# Altium footprint library rgb_led.PcbLib: 1 footprints
Each footprint in its own frame and in the unit in brackets; x right, y up, seen from the top. Pads: shape width x height; smd on the part's side, far side on the other; paste and mask are expansions set on the pad; w line width, h text height; cw(c..) or ccw(c..) is an arc to the next point about the centre after c.
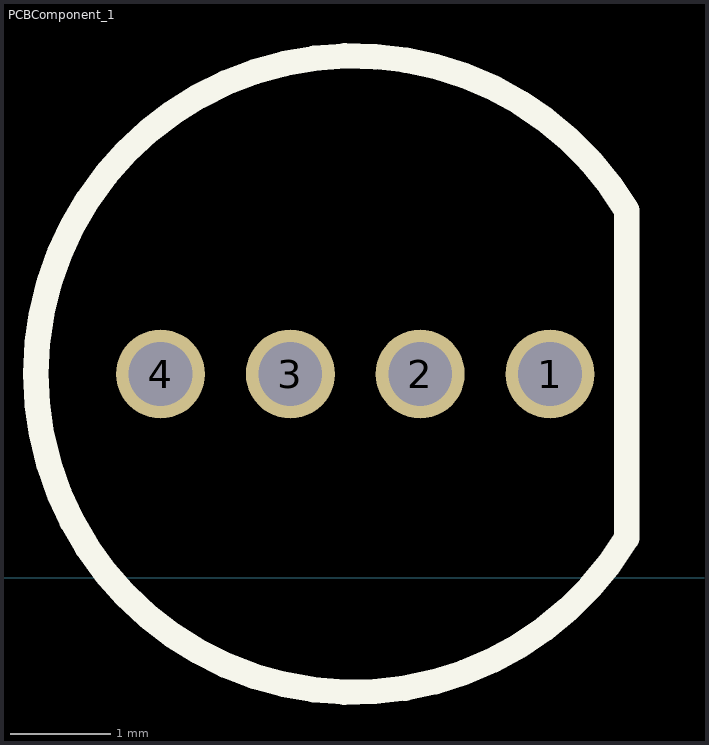
[diagram p0: the footprint, top view; thin cyan lines are the x and y axes]

## PCBComponent_1 [mil]
pads (4):
  round 35 hole 25: 1(548,80) 2(497,80) 3(446,80) 4(395,80)
Top Overlay:
  lines w10: 578.07,15.49 cw(c471,80) 578.19,144.31 578.19,15.61